# EAGLE library part DS2Y-S-DC* (library relay)
MINIATURE RELAY NAiS Source: http://www.mew-europe.com/.. en_ds_61005_0023.pdf
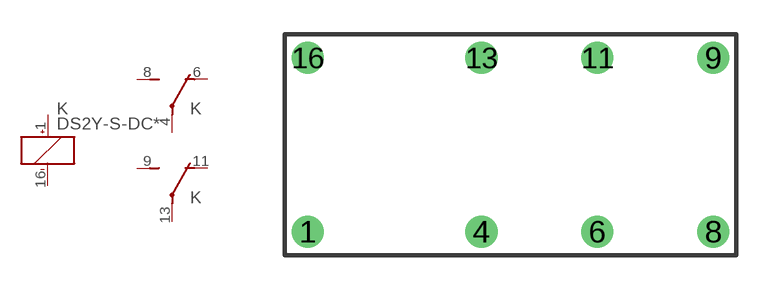
[diagram p57: symbol with the pads of DS2Y; footprint DS2Y]

Designator prefix K; gates 1=K+- 2=U 3=U

## DS2Y-S-DC1.5V (MPN: DS2Y-S-DC1.5V; OC_FARNELL: unknown; OC_NEWARK: 10C5827), DS2Y-S-DC12V (MPN: DS2Y-S-DC12V; OC_FARNELL: unknown; OC_NEWARK: 13P3261), DS2Y-S-DC24V (MPN: DS2Y-S-DC24V; OC_FARNELL: unknown; OC_NEWARK: 13P3264), DS2Y-S-DC3V (MPN: DS2Y-S-DC3V; OC_FARNELL: unknown; OC_NEWARK: 10C5832), DS2Y-S-DC48V (MPN: DS2Y-S-DC48V; OC_FARNELL: unknown; OC_NEWARK: 13P3267), DS2Y-S-DC5V (MPN: DS2Y-S-DC5V; OC_FARNELL: unknown; OC_NEWARK: 13P3268), DS2Y-S-DC6V (MPN: DS2Y-S-DC6V; OC_FARNELL: unknown; OC_NEWARK: 13P3271), DS2Y-S-DC9V (MPN: DS2Y-S-DC9V; OC_FARNELL: unknown; OC_NEWARK: 13P3272)  [DS2Y]
1  1:+  pas
4  2:P  pas
6  2:O  pas
8  2:S  pas
9  3:S  pas
11  3:O  pas
13  3:P  pas
16  1:-  pas

## Footprint DS2Y (pad centres in mm)
MINIATURE RELAY NAiS Source: http://www.mew-europe.com/.. en_ds_61005_0023.pdf
drill 0.9: 1 -8.89,-3.81; 4 -1.27,-3.81; 6 3.81,-3.81; 8 8.89,-3.81; 9 8.89,3.81; 11 3.81,3.81; 13 -1.27,3.81; 16 -8.89,3.81